# Altium footprint library SMD Capacitors.PcbLib: 7 footprints
Each footprint in its own frame and in the unit in brackets; x right, y up, seen from the top. Pads: shape width x height; smd on the part's side, far side on the other; paste and mask are expansions set on the pad; w line width, h text height; cw(c..) or ccw(c..) is an arc to the next point about the centre after c.
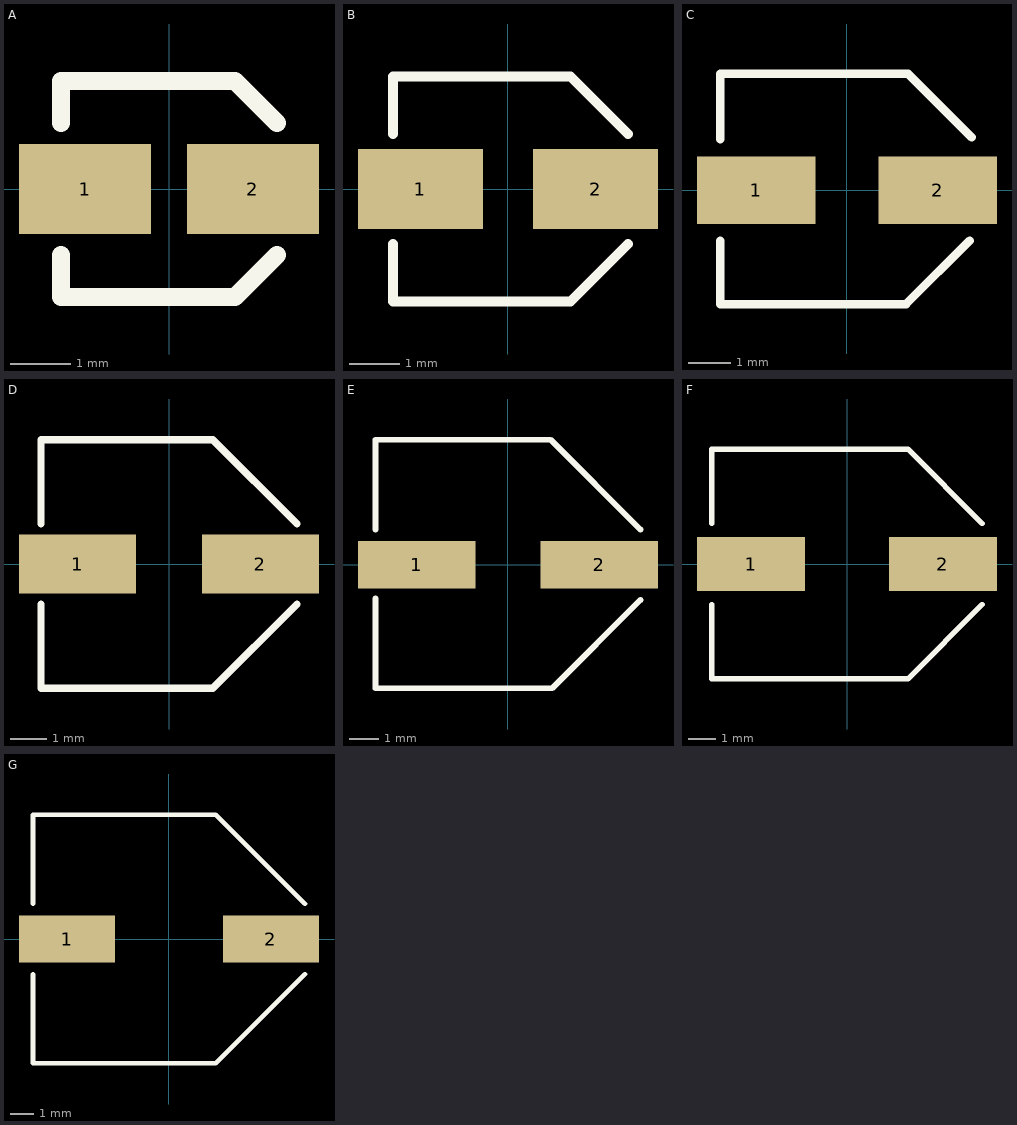
[diagram p0: the footprints below, top view; thin cyan lines are the x and y axes]

## A [mm]
pads (2):
  rect 2.2x1.5 smd: 1(-1.4,0) 2(1.4,0)
Top Overlay:
  lines w0.3: -1.8,-1.1 -1.8,-1.8 1.1,-1.8 1.8,-1.1 ; -1.8,1.1 -1.8,1.8 1.1,1.8 1.8,1.1

## B [mm]
pads (2):
  rect 2.5x1.6 smd: 1(-1.75,0) 2(1.75,0)
Top Overlay:
  lines w0.2: -2.3,-1.1 -2.3,-2.25 1.2,-2.25 1.25,-2.25 2.4,-1.1 ; -2.3,1.1 -2.3,2.25 1.2,2.25 1.25,2.25 2.4,1.1

## C [mm]
pads (2):
  rect 2.8x1.6 smd: 1(-2.15,0) 2(2.15,0)
Top Overlay:
  lines w0.2: -3,-1.2 -3,-2.7 1.4,-2.7 2.9,-1.2 ; -3,1.2 -3,2.75 1.45,2.75 2.95,1.25

## D [mm]
pads (2):
  rect 3.2x1.6 smd: 1(-2.5,0) 2(2.5,0)
Top Overlay:
  lines w0.2: -3.5,-1.1 -3.5,-3.4 0.9,-3.4 1.2,-3.4 3.5,-1.1 ; -3.5,1.1 -3.5,3.4 0.9,3.4 1.2,3.4 3.5,1.1

## E [mm]
pads (2):
  rect 4x1.6 smd: 1(-3.1,0) 2(3.1,0)
Top Overlay:
  lines w0.2: -4.5,-1.15 -4.5,-4.2 1.5,-4.2 4.5,-1.2 ; -4.5,1.2 -4.5,4.25 1.45,4.25 4.5,1.2 ; 4.5,-1.2 4.5,-1.2

## F [mm]
pads (2):
  rect 4x2 smd: 1(-3.55,0) 2(3.55,0)
Top Overlay:
  lines w0.2: -5,-1.5 -5,-4.25 2.25,-4.25 5,-1.5 ; -5,1.5 -5,4.25 2.25,4.25 5,1.5

## G [mm]
pads (2):
  rect 4.1x2 smd: 1(-4.35,0) 2(4.35,0)
Top Overlay:
  lines w0.2: -5.8,-1.5 -5.8,-5.3 2,-5.3 5.8,-1.5 ; -5.8,1.5 -5.8,5.3 2,5.3 5.8,1.5